# EAGLE library part SILABS_CP210* (library It-s Time, Do)
Single-Chip USB to UART Bridge Source: www.silabs.com .. CP2101.pdf / cp2102.pdf
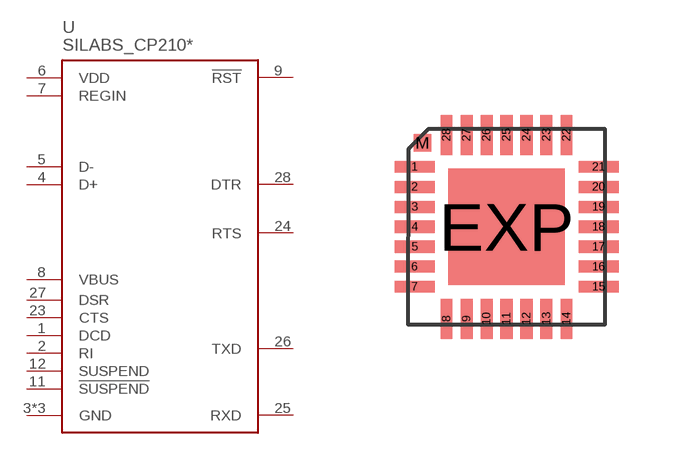
[diagram p2: symbol with the pads of SILABS_QFN28; footprint SILABS_QFN28]

Designator prefix U

## SILABS_CP210, SILABS_CP2101 (PN: CP2102N-A02-GQFN28), SILABS_CP2102  [SILABS_QFN28]
1  DCD  pas
2  RI  pas
3  GND  pwr
4  D+
5  D-
6  VDD  pwr
7  REGIN  pas
8  VBUS  pas
9  !RST
11  !SUSPEND  out
12  SUSPEND  pas
23  CTS  pas
24  RTS  out
25  RXD  in
26  TXD  out
27  DSR  pas
28  DTR  out
EXP  GND  pwr
M  GND  pwr

## Footprint SILABS_QFN28 (pad centres in mm)
MLP 28 Source: www.silabs.com .. CP2101.pdf
smd 1 x 0.3: 1 -2.3,1.5; 2 -2.3,1; 3 -2.3,0.5; 4 -2.3,0; 5 -2.3,-0.5; 6 -2.3,-1; 7 -2.3,-1.5; 15 2.3,-1.5; 16 2.3,-1; 17 2.3,-0.5; 18 2.3,0; 19 2.3,0.5; 20 2.3,1; 21 2.3,1.5
smd 0.3 x 1: 8 -1.5,-2.3; 9 -1,-2.3; 10 -0.5,-2.3; 11 0,-2.3; 12 0.5,-2.3; 13 1,-2.3; 14 1.5,-2.3; 22 1.5,2.3; 23 1,2.3; 24 0.5,2.3; 25 0,2.3; 26 -0.5,2.3; 27 -1,2.3; 28 -1.5,2.3
smd 2.921 x 2.921: EXP 0,0
smd 0.435 x 0.435: M -2.103,2.103